# Altium footprint library PCB_GasSensor.PcbLib: 46 footprints (part 1 of 3)
Each footprint in its own frame and in the unit in brackets; x right, y up, seen from the top. Pads: shape width x height; smd on the part's side, far side on the other; paste and mask are expansions set on the pad; w line width, h text height; cw(c..) or ccw(c..) is an arc to the next point about the centre after c.
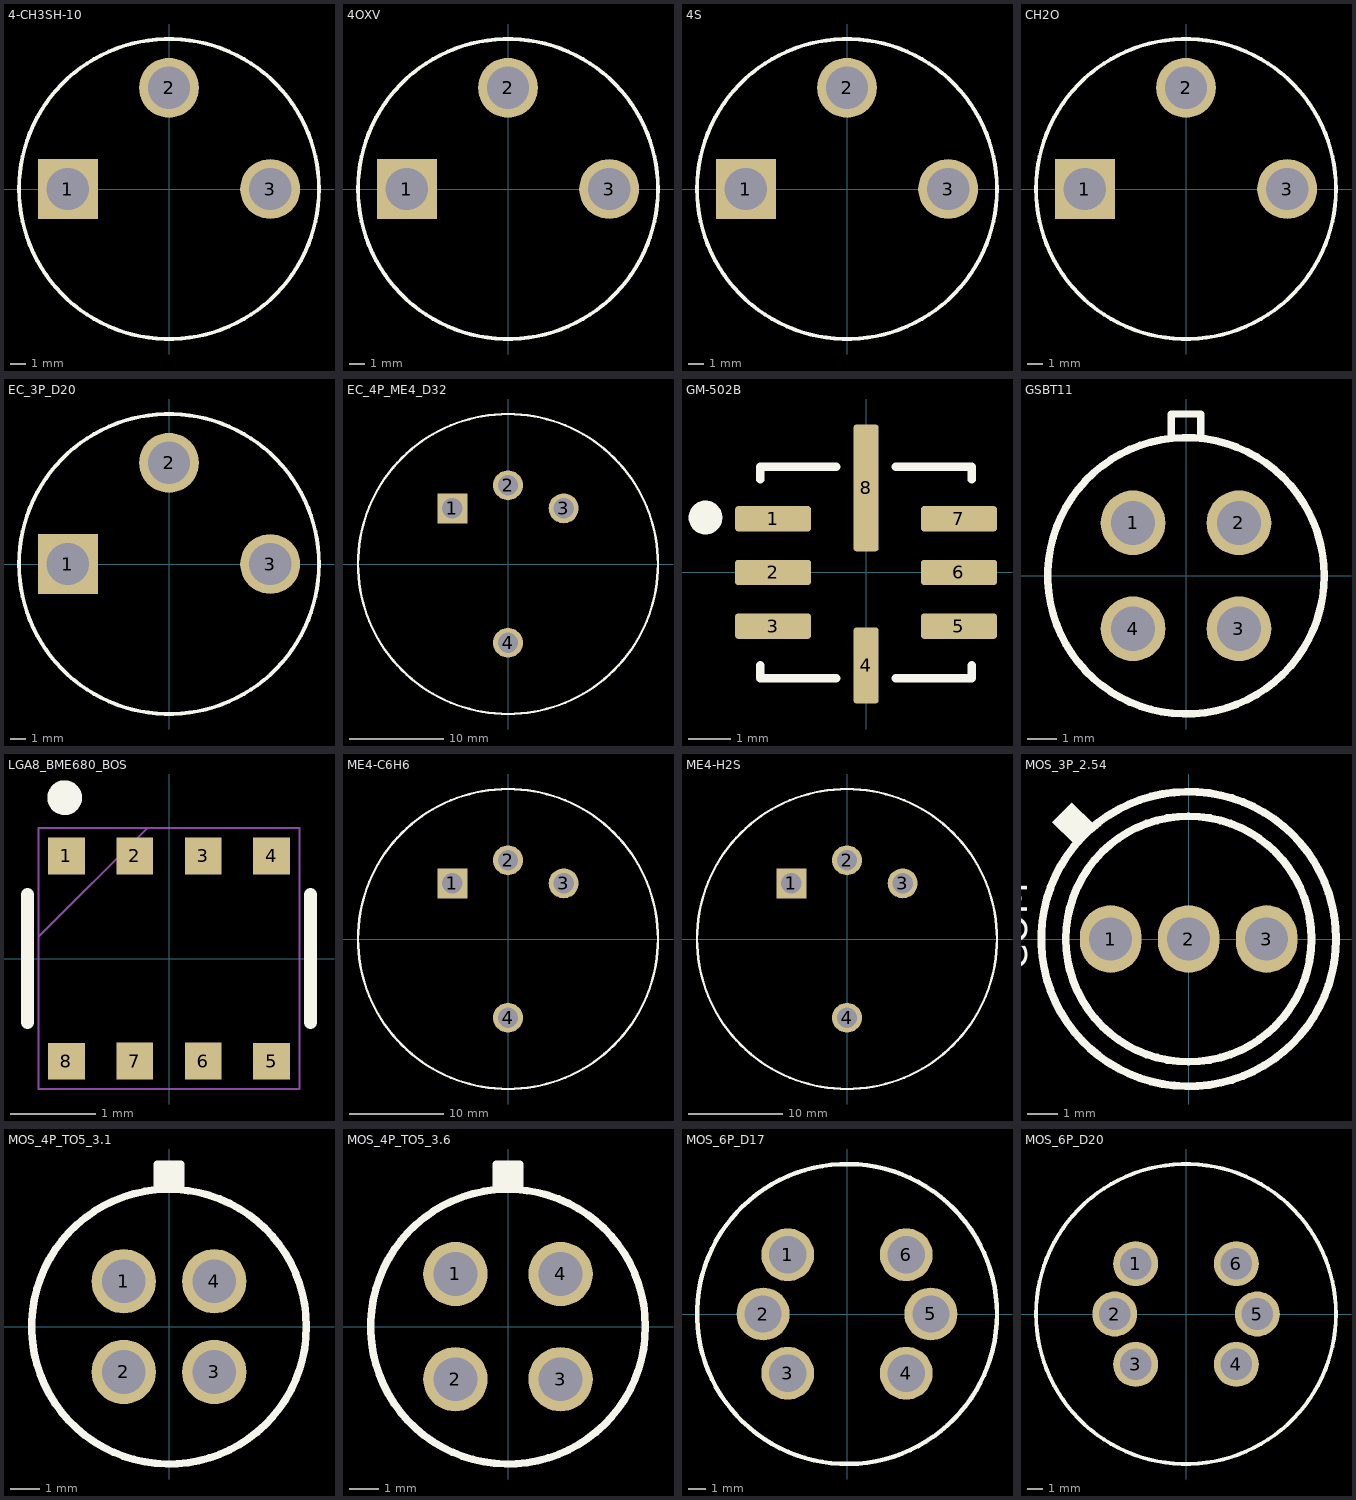
[diagram p0: the footprints below, top view; thin cyan lines are the x and y axes]

## 4-CH3SH-10 [mm]
height 16.6
pads (3):
  rect 4x4 hole 2.8: 1(-6.75,0)
  round 4 hole 2.8: 2(0,6.75) 3(6.75,0)
Top Overlay:
  circle w0.254: c0,0 r10

## 4OXV [mm]
height 16.6
pads (3):
  rect 4x4 hole 2.8: 1(-6.75,0)
  round 4 hole 2.8: 2(0,6.75) 3(6.75,0)
Top Overlay:
  circle w0.254: c0,0 r10

## 4S [mm]
height 16.6
pads (3):
  rect 4x4 hole 2.8: 1(-6.75,0)
  round 4 hole 2.8: 2(0,6.75) 3(6.75,0)
Top Overlay:
  circle w0.254: c0,0 r10

## CH2O [mm]
height 16.6
pads (3):
  rect 4x4 hole 2.8: 1(-6.75,0)
  round 4 hole 2.8: 2(0,6.75) 3(6.75,0)
Top Overlay:
  circle w0.254: c0,0 r10
3D body "User Library-Alphasense_H2S-A1.step": height 17.5, standoff -3.3, extent -10.1,-10.1 10.1,10.1

## EC_3P_D20 [mm]
height 16.6
pads (3):
  rect 4x4 hole 2.8: 1(-6.75,0)
  round 4 hole 2.8: 2(0,6.75) 3(6.75,0)
Top Overlay:
  circle w0.254: c0,0 r10
3D body "User Library-Alphasense_H2S-A1.step": height 17.5, standoff -3.3, extent -10.1,-10.1 10.1,10.1

## EC_4P_ME4_D32 [mm]
pads (4):
  rect 3.2x3.2 hole 2.15: 1(-5.94,5.94)
  round 3.2 hole 2.15: 2(0,8.4) 3(5.94,5.94) 4(0,-8.4)
Top Overlay:
  circle w0.254: c0,0 r16
3D body "OX-B431--3DModel-STEP-56544.STEP": height 17.5, standoff -2.4, extent -16.075,-16.075 16.075,16.15

## GM-502B [mm] "QFN, 8-Leads, Body 5.0x5.0mm (max), Pitch 1.27mm, IPC Medium Density"
height 1.55
pads (8):
  rrect25% 1.8x0.6 smd: 1(-2.2,1.27) 2(-2.2,0) 3(-2.2,-1.27) 5(2.2,-1.27) 6(2.2,0) 7(2.2,1.27)
  rrect25% 0.6x1.8 smd: 4(0,-2.2)
  rrect25% 0.6x3 smd: 8(0,2)
Top Overlay:
  circle w0.4: c-3.8,1.3 r0.2
  lines w0.2: -2.5,-2.2 -2.5,-2.5 -0.7,-2.5 ; -2.5,2.2 -2.5,2.5 -0.7,2.5 ; 0.7,-2.5 2.5,-2.5 2.5,-2.2 ; 0.7,2.5 2.5,2.5 2.5,2.2
3D body "User Library-gm-702b.step": height 1.51, standoff -0.01, extent -2.5,-2.5 2.5,2.5

## GSBT11 [mm]
height 7.8
pads (4):
  round 2.2 hole 1.5: 1(-1.8,1.8) 2(1.8,1.8) 3(1.8,-1.8) 4(-1.8,-1.8)
Top Overlay:
  circle w0.254: c0,0 r4.7
  lines w0.254: -0.5,4.7 -0.5,5.5 0.5,5.5 0.5,4.7
3D body "TGS2600--3DModel-STEP-56544.STEP": height 16.3, standoff -3, extent -4.6,-4.6 4.6,5

## LGA8_BME680_BOS [mil]
pads (8):
  rect 17x17 smd mask+2: 1(-47.21,47.24) 2(-15.75,47.21) 3(15.75,47.21) 4(47.21,47.24) 5(47.21,-47.24) 6(15.75,-47.21) 7(-15.75,-47.21) 8(-47.21,-47.24)
Top Overlay:
  circle w8: c-48,74 r4
  lines w6: -65,-29.51 -65,29.51 ; 65,-29.51 65,29.51
Mechanical 13:
  lines w1: -60,10 -10,60 ; -60,-60 60,-60 60,60 -60,60 -60,-60
3D body "LGA8_BME680_BOS.step": height 39.49, standoff 0, extent -60,-60 60,60

## ME4-C6H6 [mm]
pads (4):
  rect 3.2x3.2 hole 2.15: 1(-5.94,5.94)
  round 3.2 hole 2.15: 2(0,8.4) 3(5.94,5.94) 4(0,-8.4)
Top Overlay:
  circle w0.254: c0,0 r16
3D body "OX-B431--3DModel-STEP-56544.STEP": height 17.5, standoff -2.4, extent -16.075,-16.075 16.075,16.15

## ME4-H2S [mm]
height 14.5
pads (4):
  rect 3.2x3.2 hole 2.15: 1(-5.94,5.94)
  round 3.2 hole 2.15: 2(0,8.4) 3(5.94,5.94) 4(0,-8.4)
Top Overlay:
  circle w0.254: c0,0 r16
3D body "OX-B431--3DModel-STEP-56544.STEP": height 17.5, standoff -2.4, extent -16.075,-16.075 16.075,16.15

## MOS_3P_2.54 [mm]
pads (3):
  oval 2x2.2 hole 1.4: 1(-2.54,0) 2(0,0) 3(2.54,0)
Top Overlay:
  circle w0.254: c0,0 r4
  circle w0.254: c0,0 r4.8
  region: -3.746,3.111 -4.445,3.81 -3.81,4.445 -3.112,3.746
  text "COM" at -4.972,-1.015 h1.52
3D body "3D_PCB1_2024-05-28.step": height 10.5, standoff -2, extent -4.699,-4.701 4.701,4.697

## MOS_4P_TO5_3.1 [mm]
pads (4):
  round 2.2 hole 1.5: 1(-1.55,1.55) 2(-1.55,-1.55) 3(1.55,-1.55) 4(1.55,1.55)
Top Overlay:
  circle w0.254: c0,0 r4.7
  rectangle: -0.4,4.763 0.4,5.563
  lines w0.254: -0.4,4.763 -0.4,5.563 0.4,5.563 0.4,4.763
3D body "TGS2600--3DModel-STEP-56544.STEP": height 16.3, standoff -3, extent -4.6,-4.6 4.6,5

## MOS_4P_TO5_3.6 [mm]
pads (4):
  round 2.2 hole 1.5: 1(-1.8,1.8) 2(-1.8,-1.8) 3(1.8,-1.8) 4(1.8,1.8)
Top Overlay:
  circle w0.254: c0,0 r4.7
  rectangle: -0.4,4.763 0.4,5.563
  lines w0.254: -0.4,4.763 -0.4,5.563 0.4,5.563 0.4,4.763
3D body "TGS2600--3DModel-STEP-56544.STEP": height 16.3, standoff -3, extent -4.6,-4.6 4.6,5

## MOS_6P_D17 [mm]
pads (6):
  round 3 hole 2.1: 1(-3.359,3.359) 2(-4.75,0) 3(-3.359,-3.359) 4(3.359,-3.359) 5(4.75,0) 6(3.359,3.359)
Top Overlay:
  circle w0.254: c0,0 r8.5
3D body "mq-7.stp": height 11.2, standoff -5.3, extent -8.4,-8.388 8.4,8.388

## MOS_6P_D20 [mm]
pads (6):
  round 3 hole 2.1: 1(-3.359,3.359) 2(-4.75,0) 3(-3.359,-3.359) 4(3.359,-3.359) 5(4.75,0) 6(3.359,3.359)
Top Overlay:
  circle w0.254: c0,0 r10
3D body "MQ Gas Sensor.step": height 17, standoff -5, extent -9.815,-9.797 9.779,9.797